# Altium footprint library OS103011MS8QP1C.PcbLib: 1 footprints
Each footprint in its own frame and in the unit in brackets; x right, y up, seen from the top. Pads: shape width x height; smd on the part's side, far side on the other; paste and mask are expansions set on the pad; w line width, h text height; cw(c..) or ccw(c..) is an arc to the next point about the centre after c.
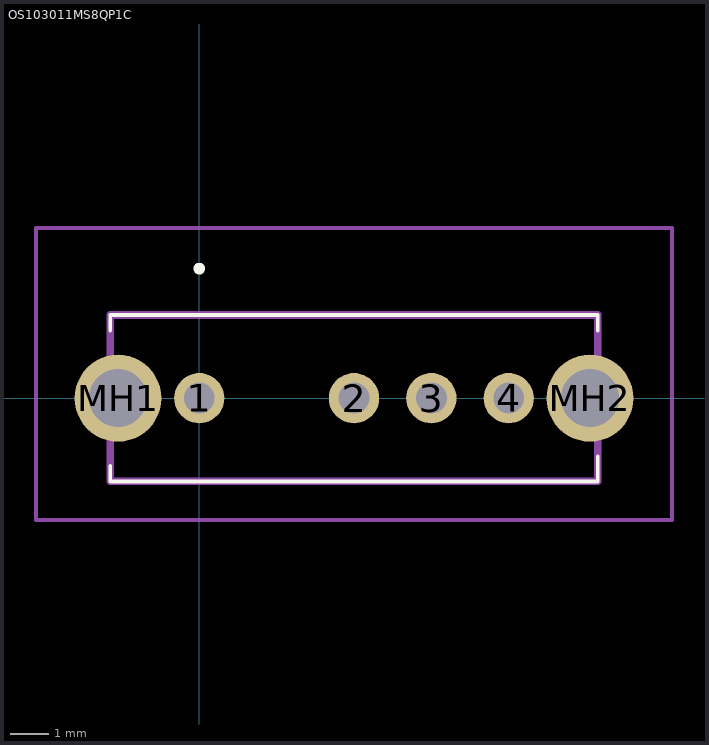
[diagram p0: the footprint, top view; thin cyan lines are the x and y axes]

## OS103011MS8QP1C [mm]
pads (6):
  round 1.3 hole 0.8: 1(0,0) 2(4,0) 3(6,0) 4(8,0)
  round 2.25 hole 1.5: MH1(-2.1,0) MH2(10.1,0)
Top Overlay:
  lines w0.1: -2.3,-2.15 -2.3,-1.75 ; -2.3,-2.15 -2.3,-2.15 ; -2.3,-2.15 -2.3,-1.75 ; -2.3,-2.15 10.25,-2.15 ; -2.3,-2.15 10.25,-2.15 ; -2.3,-2.15 -2.3,-2.15 ; -2.3,-1.75 -2.3,-1.75 ; -2.3,1.75 -2.3,1.75 ; -2.3,1.75 -2.3,2.15 ; -2.3,1.75 -2.3,2.15 ; -2.3,2.15 -2.3,2.15 ; -2.3,2.15 10.3,2.15 ; -2.3,2.15 10.3,2.15 ; -2.3,2.15 -2.3,2.15 ; 10.25,-2.15 10.25,-2.15 ; 10.3,-2.15 10.3,-2.15 ; 10.3,-2.15 10.3,-1.5 ; 10.3,-2.15 10.3,-1.5 ; 10.3,-1.5 10.3,-1.5 ; 10.3,1.75 10.3,1.75 ; 10.3,1.75 10.3,2.15 ; 10.3,1.75 10.3,2.15 ; 10.3,2.15 10.3,2.15 ; 10.3,2.15 10.3,2.15
  lines w0.2: 0,3.3 0,3.3 ; 0,3.3 ccw(c0,3.35) 0,3.4 ; 0,3.3 cw(c0,3.35) 0,3.4 ; 0,3.3 0,3.3 ; 0,3.3 ccw(c0,3.35) 0,3.4 ; 0,3.4 0,3.4
Mechanical 15:
  lines w0.2: -2.3,-2.15 10.3,-2.15 10.3,2.15 -2.3,2.15 -2.3,-2.15
Mechanical 20:
  lines w0.1: -4.225,-3.15 12.225,-3.15 12.225,4.4 -4.225,4.4 -4.225,-3.15